# EAGLE library part LTC3225EDDB (library SparkFun-IC-Power)
150mA Supercapacitor Charger
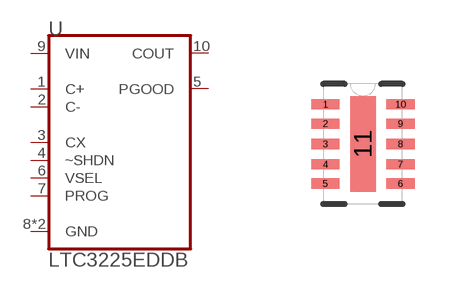
[diagram p24: symbol with the pads of DFN300X200-10L; footprint DFN300X200-10L]

Designator prefix U

## LTC3225EDDBDFN300X200-10L (PROD_ID: IC-14693; VALUE: LTC3225EDDB)  [DFN300X200-10L]
1  C+  pas
2  C-  pas
3  CX  pas
4  ~SHDN  in
5  PGOOD  out
6  VSEL  in
7  PROG  in
8  GND  pas
9  VIN  pwr
10  COUT  out
11  GND  pas

## Footprint DFN300X200-10L (pad centres in mm)
smd 0.711 x 0.254: 1 -0.94,0.991; 2 -0.94,0.508; 3 -0.94,0; 4 -0.94,-0.508; 5 -0.94,-0.991; 6 0.94,-0.991; 7 0.94,-0.508; 8 0.94,0; 9 0.94,0.508; 10 0.94,0.991
smd 0.635 x 2.388: 11 0,0